# EAGLE library part LTC4357 (library linear-technology)
IDEAL DIODE CONTROLLER Positive High Voltage Ideal Diode Controller
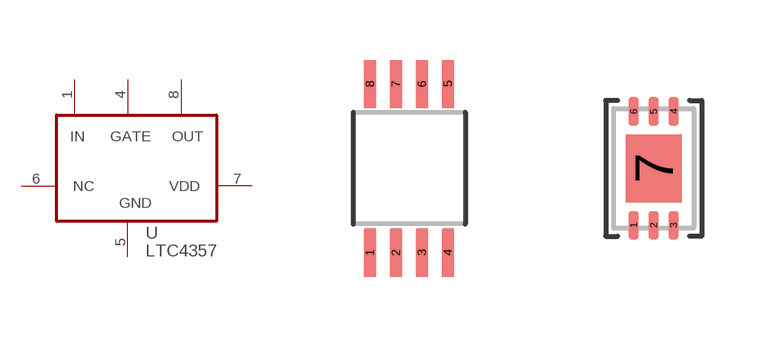
[diagram p39: symbol with the pads of MSOP08; footprints MSOP08, DFN6-2X3]

Designator prefix U

## LTC4357MS8 (P1I: o)  [MSOP08]
1  IN  pwr
4  GATE  out
5  GND  pwr
6  NC  nc
7  VDD  pas
8  OUT  pas

## LTC4357DCB (P1I: o)  [DFN6-2X3]
1  OUT  pas
2  IN  pwr
3  GATE  out
4  GND  pwr
5  NC  nc
6  VDD  pas

## Footprint MSOP08 (pad centres in mm)
Mini Small Outline Package
smd 0.3 x 1.2: 1 -0.976,-2.113; 2 -0.326,-2.113; 3 0.324,-2.113; 4 0.974,-2.113; 5 0.974,2.112; 6 0.324,2.112; 7 -0.326,2.112; 8 -0.976,2.112

## Footprint DFN6-2X3 (pad centres in mm)
DCB Package 6-Lead Plastic DFN (2mm × 3mm) (Reference LTC DWG # 05-08-1715 Rev A)
smd 0.25 x 0.7: 1 -0.5,-1.425; 2 0,-1.425; 3 0.5,-1.425; 4 0.5,1.425; 5 0,1.425; 6 -0.5,1.425
smd 1.4 x 1.7: 7 0,0